# Altium schematic symbol library Schlib1.SchLib: 2 symbols
Pins are listed as number, name and electrical type; pins without a type are passive.

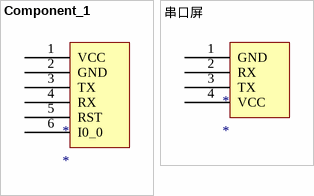
[diagram p0: symbols Component_1 to 串口屏]

## Component_1
designator *
pins: 1 VCC, 2 GND, 3 TX, 4 RX, 5 RST, 6 I0_0

## 串口屏
designator *
pins: 1 GND, 2 RX, 3 TX, 4 VCC